# Altium integrated library 7seg.IntLib: 1 symbol
Pins are listed as number, name and electrical type; pins without a type are passive.

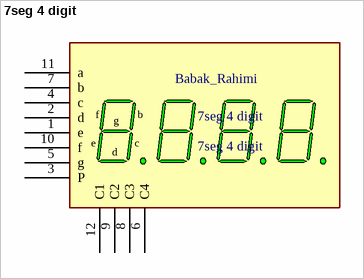
[diagram p0: symbol 7seg 4 digit]

## 7seg 4 digit
designator 7seg 4 digit
7seg 4 digit 30*14
footprint PCBComponent_1
pins: 1 e, 2 d, 3 P, 4 c, 5 g, 6 C4, 7 b, 8 C3, 9 C2, 10 f, 11 a, 12 C1
text: Babak_Rahimi